# Altium schematic symbol library Payload schlib.SchLib: 20 symbols
Pins are listed as number, name and electrical type; pins without a type are passive.

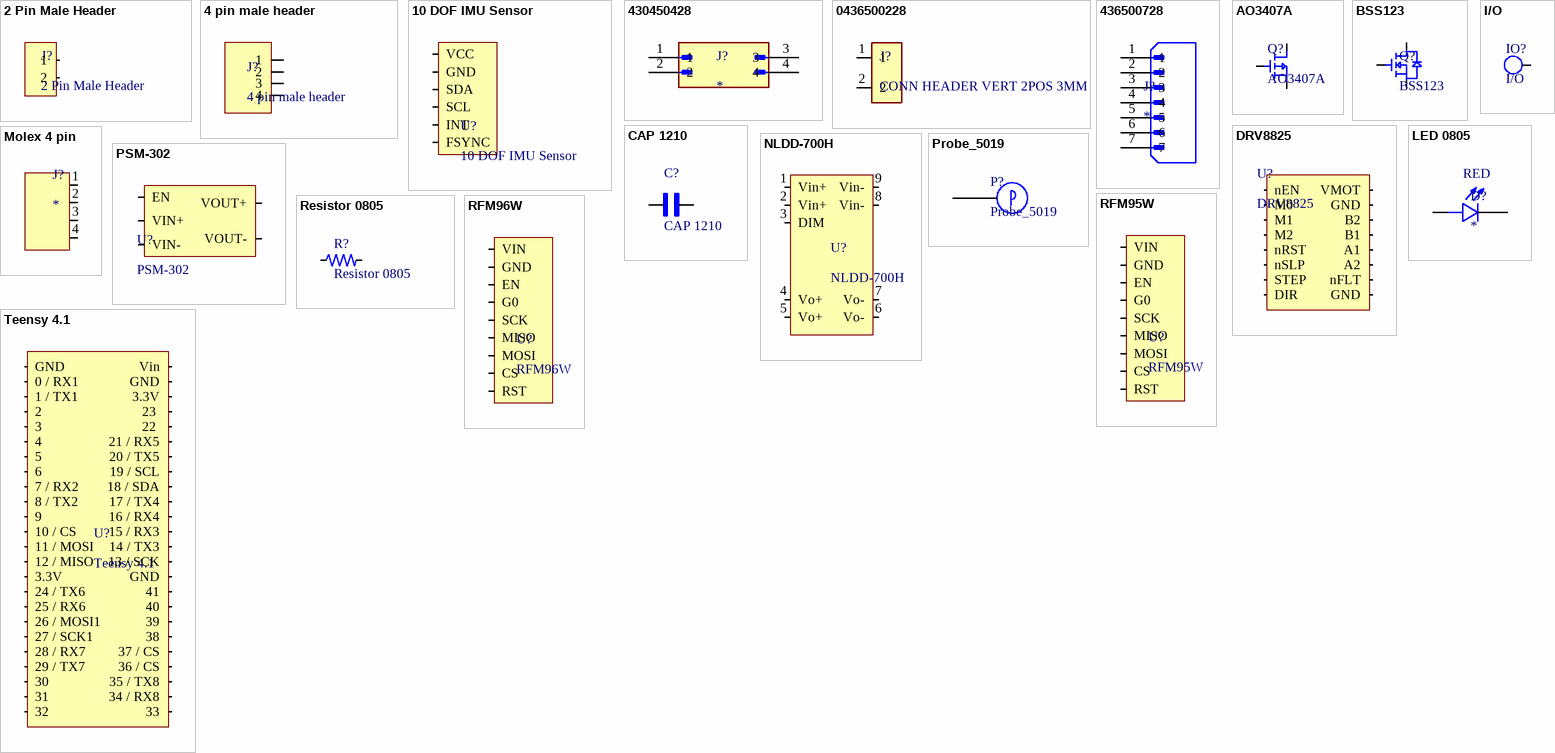
[diagram p0: symbols 2 Pin Male Header to Teensy 4.1]

## 2 Pin Male Header
designator J?
Board Connector, 2 Contact(s), 1 Row(s), Male, Straight, 0.1 inch Pitch, Solder Terminal, Black Insulator, Receptacle; Manufacturer: TE Connectivity; Manufacturer Part Number: 5-146277-2; Option: General Purpose; Contact Pattern: RECTANGULAR; Contact Style: SQ PIN-SKT; Filter Feature: No; Number Of Connectors: 1; Number of Contacts: 2; Body Breadth: 0.092inch; Body Depth: 0.09inch; Body Length: 0.184inch; Plating Thickness: 30uin; Reference Standard: UL; Reliability: COMMERCIAL; Supplier: Digikey; Supplier Part Number: A121371-ND; RoHS: Yes; Category: Connectors; Stock: 17660; Pricing: 1=0.41, 10=0.372, 100=0.3099, 500=0.2634, 1000=0.23087, 5000=0.20608, 10000=0.19176 (USD); Mounting Technology: Board; Contact Finish - Mating: MATTE TIN; Contact Finish - Termination: MATTE TIN; Insulation Color: Black; Insulation Material: Polymer; Connector Type: BOARD CONNECTOR; JESD-609 Code: e3; Body/Shell Style: RECEPTACLE; Contact Gender: Male; Mixed Contacts: No; Mounting Style: STRAIGHT; Number Of PCB Rows: 1; Number of Rows Loaded: 1; PCB Contact Pattern: RECTANGULAR; Termination: Solder; Mating Contact Pitch: 0.1inch; Terminal Length: 0.125inch; Terminal Pitch: 2.54mm; DIN Conformance: No; IEC Conformance: No; MIL Conformance: No; Reach SVHC Compliant: Yes; RoHS Compliant: Yes; ComponentLink1URL: https://datasheet.ciiva.com:443/pdfs/VipMasterIC/IC/TYEL/TYEL-L-A0003497673/TYEL-S-A0000657051-1.pdf?src-supplier=IHS+Markit; ComponentLink1Description: https://datasheet.ciiva.com:443/pdfs/VipMasterIC/IC/TYEL/TYEL-L-A0003497673/TYEL-S-A0000657051-1.pdf?src-supplier=IHS+Markit; ComponentLink2URL: https://datasheet.ciiva.com/22660/1537112-22660377.pdf?src-supplier=Element14; ComponentLink2Description: https://datasheet.ciiva.com/22660/1537112-22660377.pdf?src-supplier=Element14; ComponentLink3URL: https://datasheet.ciiva.com/717/eng-cd-146277-h-146277-1-c-dwg-717333.pdf?src-supplier=Digikey; ComponentLink3Description: https://datasheet.ciiva.com/717/eng-cd-146277-h-146277-1-c-dwg-717333.pdf?src-supplier=Digikey; ComponentLink4URL: https://datasheet.ciiva.com/16426/eng-cd-146277-g2-16426389.pdf?src-supplier=Future+Electronics; ComponentLink4Description: https://datasheet.ciiva.com/16426/eng-cd-146277-g2-16426389.pdf?src-supplier=Future+Electronics; ComponentLink5URL: https://datasheet.ciiva.com/30096/146277-30096236.pdf?src-supplier=Onlinecomponents.com; ComponentLink5Description: https://datasheet.ciiva.com/30096/146277-30096236.pdf?src-supplier=Onlinecomponents.com
footprint 2 Pin Male Header
pins: 1, 2

## 4 pin male header
designator J?
pins: 1, 2, 3, 4

## 10 DOF IMU Sensor
designator U?
10 DOF IMU Sensor, ICM20948 Onboard, Low Power, High Precision
footprint 10 DOF IMU Sensor
pins: 1 VCC, 2 GND, 3 SDA, 4 SCL, 5 INT, 6 FSYNC

## 430450428
designator J?
MP: 430450428; Availability: Unavailable; Value: *; Package: None; Price: None
footprint Connector Molex MicroFit+ 4 Pos R/A (3.00 mm pitch Dual Row Right Angle (2125280400))
pins: 1, 2, 3, 4

## 0436500228
designator J?, comment CONN HEADER VERT 2POS 3MM
Rectangular Power Connector, 2 Contact(s), Female, Solder Terminal; Manufacturer Part Number: 43650-0228; Manufacturer Series: 43650; MF: Molex; MP: 0436500200; Connector Type: Power,Rectangular; Number of Contacts: 2; Option: General Purpose; Contact Style: SQ PIN-SKT; Durability: 30Cycles; Empty Shell: No; Mating Information: MULTIPLE MATING PARTS AVAILABLE; Number Of Connectors: 1; Rated Current (Signal): 5A; Board Mounting Option: PEG; Body/Shell Style: RECEPTACLE; Contact Resistance: 10mR; Dielectric Withstanding Voltage (AC): 1.5kV; Insertion Force-Max: 8.0064N; Insulation Resistance: 1GR; Polarization Key: POLARIZED HOUSING; Withdrawl Force-Min: 3.614N; Mating Contact Pitch: 0.118inch; Mounting Option 1: POLARIZED LCK; Mounting Option 2: LOCKING; Plating Thickness: 15uin; Body Breadth: 0.219inch; Body Depth: 0.39inch; Body Length: 0.38inch; Reference Standard: UL; Reliability: COMMERCIAL; SnapEDA_Link: https://www.snapeda.com/parts/0436500200/Molex/view-part/552556/?ref=snap; Price: None; Availability: Unavailable; Package: None; Value: *; Supplier: Mouser; Supplier Part Number: 538-43650-0228; Manufacturer: Molex; RoHS: Yes; Category: Headers and Wire Housings; Stock: 12783; Pricing: 1=0.78, 10=0.537, 50=0.537, 100=0.537, 1000=0.536, 10000=0.473 (USD); Mounting Technology: Board; Contact Finish - Mating: AU; Insulation Color: Black; Insulation Material: Polymer; Shell Material: Polymer; Contact Material: Brass; Contact Finish - Termination: TIN/LEAD OVER NICKEL; Min Operating Temperature: -40°C; Max Operating Temperature: 105°C; Contact Gender: Male; Termination: Solder; Contact Pattern: RECTANGULAR; Filter Feature: No; Mixed Contacts: No; Mounting Style: STRAIGHT; Number of Rows Loaded: 1; Number Of PCB Rows: 1; PCB Contact Pattern: RECTANGULAR; Terminal Length: 0.125inch; Terminal Pitch: 2.9972mm; Flammability Rating: UL94 V-0; Reach SVHC Compliant: Yes; RoHS Compliant: Yes; DIN Conformance: No; IEC Conformance: No; MIL Conformance: No; ComponentLink1URL: https://datasheet.ciiva.com:443/pdfs/VipMasterIC/IC/MOLE/MOLES07498/MOLES07498-1.pdf?src-supplier=IHS+Markit; ComponentLink1Description: https://datasheet.ciiva.com:443/pdfs/VipMasterIC/IC/MOLE/MOLES07498/MOLES07498-1.pdf?src-supplier=IHS+Markit; ComponentLink2URL: https://datasheet.ciiva.com/13550/0436500228-pcb-headers-148884-13550297.pdf?src-supplier=Mouser; ComponentLink2Description: https://datasheet.ciiva.com/13550/0436500228-pcb-headers-148884-13550297.pdf?src-supplier=Mouser
footprint CONN HEADER VERT 2POS 3MM
pins: 1, 2

## 436500728
designator J?
Connector Header Through Hole 7 position 0.118 (3.00mm); MF: Molex; MP: 436500728; SnapEDA_Link: https://www.snapeda.com/parts/436500728/Molex/view-part/?ref=snap; Package: None; Value: *; Digi-Key_Part_Number: WM10682-ND; Check_prices: https://www.snapeda.com/parts/436500728/Molex/view-part/?ref=eda
footprint MOLEX_436500728
pins: 1, 2, 3, 4, 5, 6, 7

## AO3407A
designator Q?
Small Signal Field-Effect Transistor, 4.3A I(D), 30V, 1-Element, P-Channel, Silicon, Metal-oxide Semiconductor FET; Manufacturer: Alpha & Omega Semiconductor; Package Body Material: Plastic; Drain-source On Resistance-Max: 48mR; Feedback Cap-Max (Crss): 90pF; Number of Elements: 1; Operating Mode: ENHANCEMENT MODE; Power Dissipation-Max (Abs): 1.4W; Transistor Application: SWITCHING; Qualification Status: Not Qualified; Supplier: Digikey; Supplier Part Number: 785-1006-1-ND; Manufacturer Part Number: AO3407A; RoHS: Yes; Category: MOSFETs; Stock: 856157; Pricing: 1=0.31, 10=0.22, 100=0.1112, 500=0.09854, 1000=0.07668 (USD); Pins: 3; Package Shape: Rectangular; Terminal Finish: Tin; Transistor Element Material: SILICON; Max Operating Temperature: 150°C; JESD-609 Code: e3; Polarity/Channel Type: P-CHANNEL; Drain Current-Max (Abs) (ID): 4.3A; Drain Current-Max (ID): 4.3A; DS Breakdown Voltage-Min: 30V; FET Technology: METAL-OXIDE SEMICONDUCTOR; JESD-30 Code: R-PDSO-G3; Moisture Sensitivity Level: 1; Package Style: SMALL OUTLINEMeter; Surface Mount: Yes; Terminal Form: Gull Wing; Terminal Position: DUAL; RoHS Compliant: Yes; Reach SVHC Compliant: Yes; ComponentLink1URL: https://datasheet.ciiva.com:443/pdfs/VipMasterIC/IC/ALOM/ALOMS01464/ALOMS01464-1.pdf?src-supplier=IHS+Markit; ComponentLink1Description: https://datasheet.ciiva.com:443/pdfs/VipMasterIC/IC/ALOM/ALOMS01464/ALOMS01464-1.pdf?src-supplier=IHS+Markit; ComponentLink2URL: https://datasheet.ciiva.com/940/ao3407a-940745.pdf?src-supplier=Digikey; ComponentLink2Description: https://datasheet.ciiva.com/940/ao3407a-940745.pdf?src-supplier=Digikey; ComponentLink3URL: https://datasheet.ciiva.com/940/ao3407a-940747.pdf?src-supplier=Digikey; ComponentLink3Description: https://datasheet.ciiva.com/940/ao3407a-940747.pdf?src-supplier=Digikey; ComponentLink4URL: https://datasheet.ciiva.com/18057/getdatasheetpartid-64436-18057110.pdf?src-supplier=Verical; ComponentLink4Description: https://datasheet.ciiva.com/18057/getdatasheetpartid-64436-18057110.pdf?src-supplier=Verical
footprint AO3407A
pins: 1 Gate, 2 Source, 3 Drain

## BSS123
designator Q?
Small Signal Field-Effect Transistor, 0.17A I(D), 100V, 1-Element, N-Channel, Silicon, Metal-oxide Semiconductor FET, TO-236; Manufacturer: ON Semiconductor / Fairchild; Package Body Material: Plastic; Drain Current-Max (ID): 170mA; Drain-source On Resistance-Max: 10R; Number of Elements: 1; Operating Mode: ENHANCEMENT MODE; Feedback Cap-Max (Crss): 6pF; Power Dissipation-Max (Abs): 360mW; Transistor Application: SWITCHING; Qualification Status: Not Qualified; Supplier: Digikey; Supplier Part Number: BSS123NCT-ND; Manufacturer Part Number: BSS123; RoHS: Yes; Category: MOSFETs; Stock: 15036; Pricing: 1=0.35, 10=0.246, 100=0.1244, 500=0.10144, 1000=0.07527 (USD); Pins: 3; Package Shape: Rectangular; Transistor Element Material: SILICON; Max Operating Temperature: 150°C; Polarity/Channel Type: N-CHANNEL; DS Breakdown Voltage-Min: 100V; FET Technology: METAL-OXIDE SEMICONDUCTOR; JESD-30 Code: R-PDSO-G3; Package Style: SMALL OUTLINEMeter; Surface Mount: Yes; Terminal Form: Gull Wing; Terminal Position: DUAL; Moisture Sensitivity Level: 1; Drain Current-Max (Abs) (ID): 170mA; RoHS Compliant: Yes; Reach SVHC Compliant: Yes; ComponentLink1URL: https://datasheet.ciiva.com:443/pdfs/VipMasterIC/IC/ONSM/ONSM-S-A0003158648/ONSM-S-A0003544094-1.pdf?src-supplier=IHS+Markit; ComponentLink1Description: https://datasheet.ciiva.com:443/pdfs/VipMasterIC/IC/ONSM/ONSM-S-A0003158648/ONSM-S-A0003544094-1.pdf?src-supplier=IHS+Markit
footprint BSS123
pins: 1 Gate, 2 Source, 3 Drain

## CAP 1210
designator C?
SnapEDA_Link: https://www.snapeda.com/parts/C2012X8R1H104K125AA/TDK/view-part/?ref=snap; Check_prices: https://www.snapeda.com/parts/C2012X8R1H104K125AA/TDK/view-part/?ref=eda; Value: *
footprint 1210 CAP
pins: 1, 2

## DRV8825
designator U?
DRV8825 Stepper Motor Driver Carrier, High Current
footprint DRV8825
pins: 1 nEN, 2 M0, 3 M1, 4 M2, 5 nRST, 6 nSLP, 7 STEP, 8 DIR, 9 GND, 10 nFLT, 11 A2, 12 A1, 13 B1, 14 B2, 15 GND, 16 VMOT

## I/O
designator IO?
pins: 1

## LED 0805
designator D?
Red LED Indication - Discrete 1.7V 0805 (2012 Metric); MP: 7012X1; Package: None; Availability: Unavailable; Value: *; Price: None
footprint LED_0805
pins: 1 C, 2 A
text: RED

## Molex 4 pin
designator J?
footprint Connector Molex MicroFit+ 4 Pos R/A (3.00 mm pitch Dual Row Right Angle (2125280400))
pins: 1, 2, 3, 4

## NLDD-700H
designator U?
LED DC/DC Converter 10-56Vdc Input, 700mA Output, Board mount; Manufacturer: Mean Well; Supplier: Digikey; Supplier Part Number: 1866-NLDD-700H-ND; Manufacturer Part Number: NLDD-700H; RoHS: No; Stock: 280; Pricing: 1=5.45 (USD); ComponentLink1URL: https://datasheet.octopart.com/NLDD-700H-Mean-Well-datasheet-158237201.pdf?src-supplier=Component+Distributors+Inc.; ComponentLink1Description: https://datasheet.octopart.com/NLDD-700H-Mean-Well-datasheet-158237201.pdf?src-supplier=Component+Distributors+Inc.
footprint NLDD-700H
pins: 1 Vin+, 2 Vin+, 3 DIM, 4 Vo+, 5 Vo+, 6 Vo-, 7 Vo-, 8 Vin-, 9 Vin-

## Probe_5019
designator P?
Phosphor Bronze Contact Miniature Silver Plated Surface Mount Test Points; Manufacturer: Keystone Electronics; Manufacturer Part Number: 5019; Supplier 1: Newark; RoHS: Yes; Category: Connectors; Stock 1: 148000; Pricing 1: 1=0.12300, 1000=0.12300, 2000=0.11700, 4000=0.11300, 6000=0.11000 (USD); Mount: Surface Mount,PCB; Number of Pins: 1; Contact Plating: Silver; Contact Material: Bronze; Material: Bronze; Plating: Silver; Body Material: Bronze; Packaging: Tape and Reel; Package Quantity: 1; Termination: SMD/SMT; Series: 5019; Height: 0.09inch; RoHS Compliant: Yes; Lead Free: Lead Free; Reach SVHC Compliant: Yes; ComponentLink1URL: https://datasheet.ciiva.com/16318/m60-2p61-16318395.pdf?src-supplier=Future+Electronics; ComponentLink1Description: https://datasheet.ciiva.com/16318/m60-2p61-16318395.pdf?src-supplier=Future+Electronics; ComponentLink2URL: https://datasheet.ciiva.com/16885/70182998-16885945.pdf?src-supplier=Allied+Electronics; ComponentLink2Description: https://datasheet.ciiva.com/16885/70182998-16885945.pdf?src-supplier=Allied+Electronics; ComponentLink3URL: https://datasheet.ciiva.com/14848/m60-2p61-14848437.pdf?src-supplier=Digi-Key; ComponentLink3Description: https://datasheet.ciiva.com/14848/m60-2p61-14848437.pdf?src-supplier=Digi-Key; ComponentLink4URL: https://datasheet.ciiva.com/14848/m60-2p61-14848438.pdf?src-supplier=Digi-Key; ComponentLink4Description: https://datasheet.ciiva.com/14848/m60-2p61-14848438.pdf?src-supplier=Digi-Key; ComponentLink5URL: https://datasheet.ciiva.com/14848/m60-2p61-14848439.pdf?src-supplier=Digi-Key; ComponentLink5Description: https://datasheet.ciiva.com/14848/m60-2p61-14848439.pdf?src-supplier=Digi-Key; Supplier Part Number 1: 06W4636
footprint Probe_5019
footprint Probe_5019
footprint Testpoint
pins: 1

## PSM-302
designator U?
3-15VDC to 5VDC Step Down Regulator/Converter Module @ 600mA
footprint PSM-302
pins: 1 EN, 2 VIN+, 3 VIN-, 4 VOUT-, 5 VOUT+

## Resistor 0805
designator R?
MP: 2-2176053-2; Resistance: .39; Power_Rating: .25 W; MF: TE Connectivity; Tolerance: 1%; Package: 0805; Value: *; SnapEDA_Link: https://www.snapeda.com/parts/2-2176053-2/TE%20Connectivity/view-part/2214511/?ref=snap; Availability: Unavailable; Price: None; EU_RoHS_Compliance: Compliant with Exemptions
footprint res 0805
pins: 1, 2

## RFM95W
designator U?
Adafruit RFM95W LoRa Radio Transceiver Breakout - 868 or 915 MHz; Manufacturer: Adafruit Industries; Manufacturer Part Number: 3072; Supplier: Digikey; Supplier Part Number: 1528-1667-ND; RoHS: No; Category: RF Semiconductors and Devices; Stock: 109; Pricing: 1=19.95 (USD); ComponentLink1URL: https://learn.adafruit.com/downloads/pdf/adafruit-rfm69hcw-and-rfm96-rfm95-rfm98-lora-packet-padio-breakouts.pdf?src-supplier=Digikey; ComponentLink1Description: https://learn.adafruit.com/downloads/pdf/adafruit-rfm69hcw-and-rfm96-rfm95-rfm98-lora-packet-padio-breakouts.pdf?src-supplier=Digikey
footprint RFM95W
pins: 1 VIN, 2 GND, 3 EN, 4 G0, 5 SCK, 6 MISO, 7 MOSI, 8 CS, 9 RST

## RFM96W
designator U?
Banana Plug; Female to Multi-Stacking Banana Plug; Nickel Plated Brass; Manufacturer: Adafruit Industries; Manufacturer Part Number: 3072; Supplier: Digikey; Supplier Part Number: 1528-1667-ND; RoHS: No; Category: RF Semiconductors and Devices; Stock: 109; Pricing: 1=19.95 (USD); ComponentLink1URL: https://learn.adafruit.com/downloads/pdf/adafruit-rfm69hcw-and-rfm96-rfm95-rfm98-lora-packet-padio-breakouts.pdf?src-supplier=Digikey; ComponentLink1Description: https://learn.adafruit.com/downloads/pdf/adafruit-rfm69hcw-and-rfm96-rfm95-rfm98-lora-packet-padio-breakouts.pdf?src-supplier=Digikey
footprint RFM95W
pins: 1 VIN, 2 GND, 3 EN, 4 G0, 5 SCK, 6 MISO, 7 MOSI, 8 CS, 9 RST

## Teensy 4.1
designator U?
iMXRT1062 Microcontroller Development Board 600MHz CPU 1GB RAM 8MB Flash; Manufacturer: SparkFun; Manufacturer Part Number: DEV-16771; Supplier: Digikey; Supplier Part Number: 1568-DEV-16771-ND; RoHS: No; Category: Embedded Processors and Controllers; Stock: 2404; Pricing: 1=37.2 (USD); ComponentLink1URL: https://media.digikey.com/pdf/Data%20Sheets/Sparkfun%20PDFs/DEV-16771_Web.pdf?src-supplier=Digikey; ComponentLink1Description: https://media.digikey.com/pdf/Data%20Sheets/Sparkfun%20PDFs/DEV-16771_Web.pdf?src-supplier=Digikey
footprint MODULE_DEV-16771
footprint Teensy 4.1
pins: 1 GND, 2 0 / RX1 , 3 1 / TX1, 4 2, 5 3, 6 4, 7 5, 8 6, 9 7 / RX2, 10 8 / TX2, 11 9, 12 10 / CS, 13 11 / MOSI, 14 12 / MISO, 15 3.3V, 16 24 / TX6, 17 25 / RX6, 18 26 / MOSI1, 19 27 / SCK1, 20 28 / RX7, 21 29 / TX7, 22 30, 23 31, 24 32, 25 33, 26 34 / RX8, 27 35 / TX8, 28 36 / CS, 29 37 / CS, 30 38, 31 39, 32 40, 33 41, 34 GND, 35 13 / SCK, 36 14 / TX3, 37 15 / RX3, 38 16 / RX4, 39 17 / TX4, 40 18 / SDA, 41 19 / SCL, 42 20 / TX5, 43 21 / RX5, 44 22 , 45 23 , 46 3.3V, 47 GND, 48 Vin